# Altium footprint library PCB.PCBLIB: 320 footprints (part 15 of 20)
Each footprint in its own frame and in the unit in brackets; x right, y up, seen from the top. Pads: shape width x height; smd on the part's side, far side on the other; paste and mask are expansions set on the pad; w line width, h text height; cw(c..) or ccw(c..) is an arc to the next point about the centre after c.
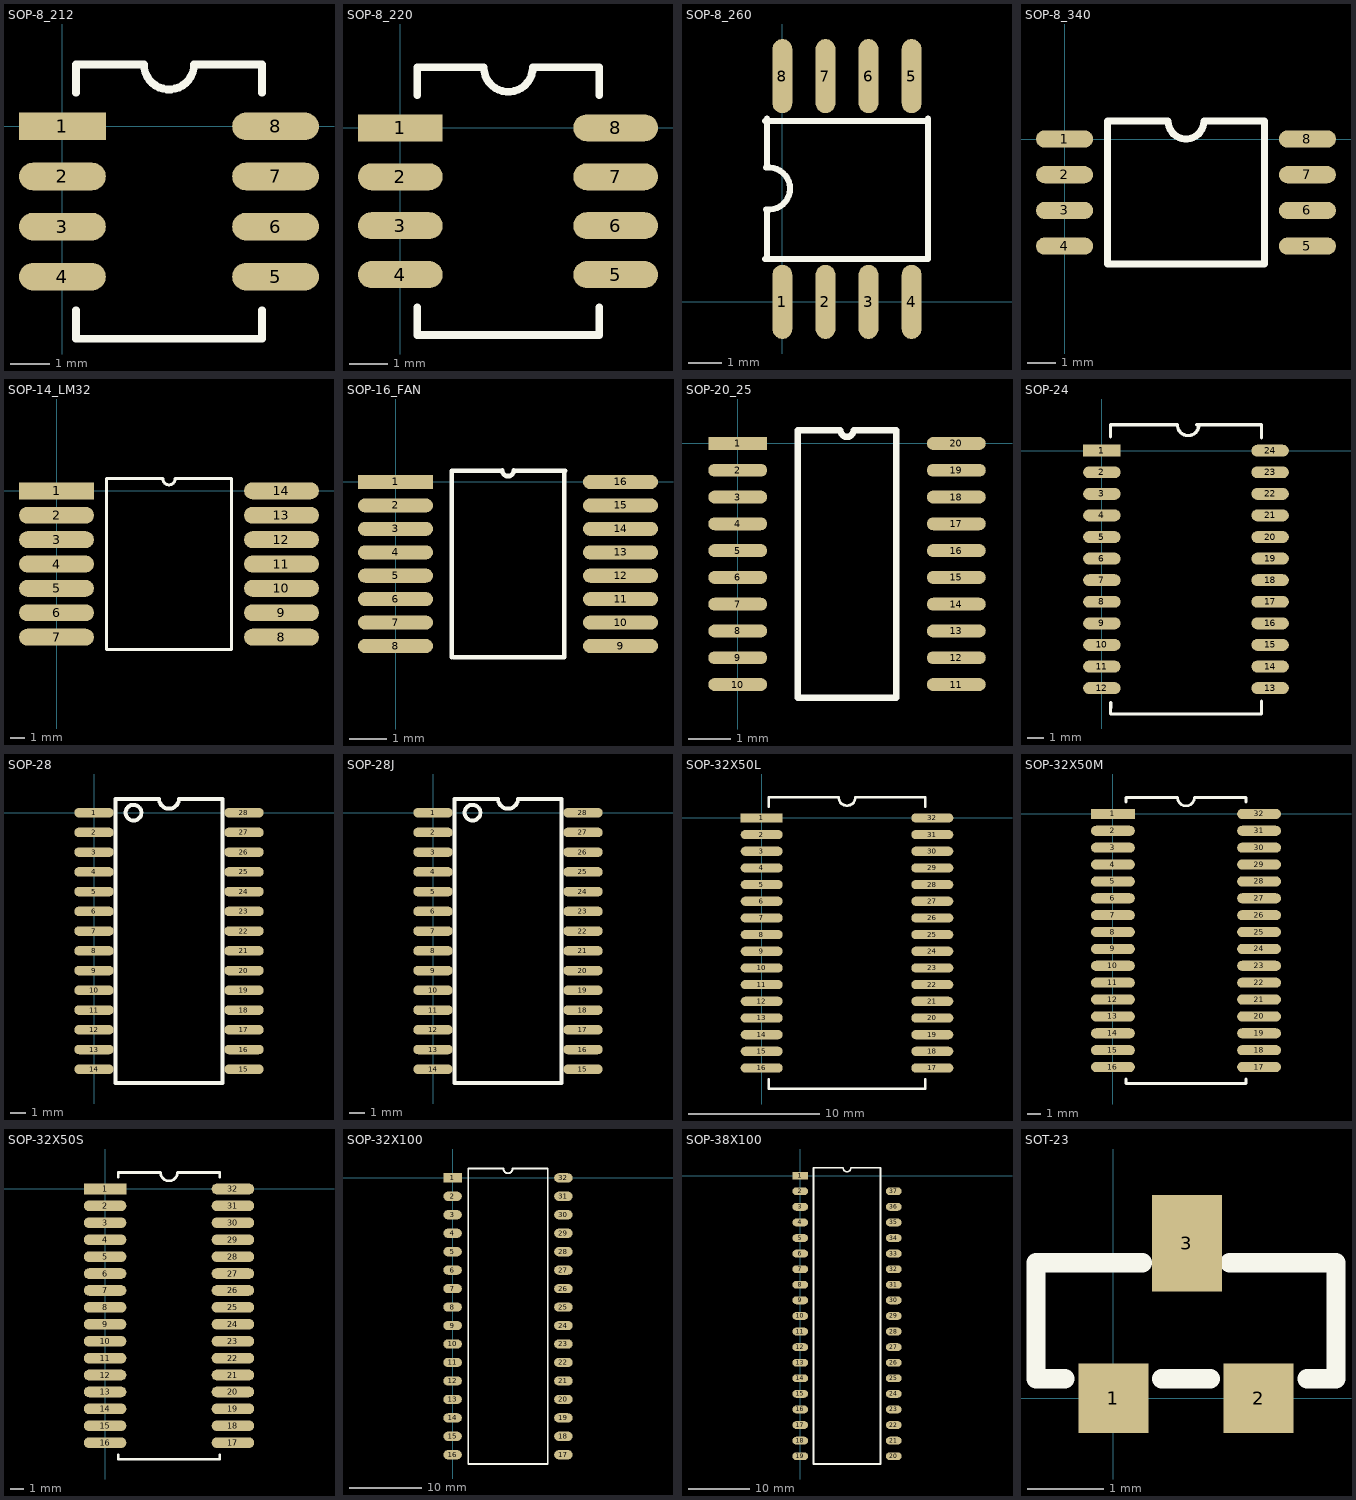
[diagram p14: the footprints below, top view; thin cyan lines are the x and y axes]

## SOP-8_212 [mm]
pads (8):
  rect 2.2x0.7 smd: 1(0,0)
  oval 2.2x0.7 smd: 2(0,-1.27) 3(0,-2.54) 4(0,-3.81) 5(5.4,-3.81) 6(5.4,-2.54) 7(5.4,-1.27) 8(5.4,0)
TopOverlay:
  lines w0.2: 0.34,-4.66 0.34,-5.38 5.06,-5.38 5.06,-4.66 ; 0.34,0.85 0.34,1.57 2.065,1.57 ccw(c2.7,1.57) 3.335,1.57 5.06,1.57 5.06,0.85

## SOP-8_220 [mm]
pads (8):
  rect 2.2x0.7 smd: 1(0,0)
  oval 2.2x0.7 smd: 2(0,-1.27) 3(0,-2.54) 4(0,-3.81) 5(5.588,-3.81) 6(5.588,-2.54) 7(5.588,-1.27) 8(5.588,0)
TopOverlay:
  lines w0.2: 0.442,-4.66 0.442,-5.38 5.162,-5.38 5.162,-4.66 ; 0.442,0.85 0.442,1.57 2.167,1.57 ccw(c2.802,1.57) 3.437,1.57 5.162,1.57 5.162,0.85

## SOP-8_260 [mil]
pads (8):
  oval 23x86 smd: 1(0,0) 2(50,0) 3(100,0) 4(150,0) 5(150,262) 6(100,262) 7(50,262) 8(0,262)
TopOverlay:
  lines w7: -20,50 167,50 ; -20,210 167,210 ; -18.65,107.14 ccw(c-16,132) 9,131.71 ; -18.67,155.86 cw(c-16,131) 9,131.27 ; -18,50 -18,106 ; -18,156 -18,213 ; 169,50 169,213

## SOP-8_340 [mil]
pads (8):
  oval 80x24 smd: 1(0,0) 2(0,-50) 3(0,-100) 4(0,-150) 5(340,-150) 6(340,-100) 7(340,-50) 8(340,0)
TopOverlay:
  lines w10: 60,-175 60,25 145,25 ccw(c170,25) 195,25 280,25 280,-175 60,-175

## SOP-14_LM32 [mil]
pads (14):
  rect 200x45 smd: 1(0,0)
  oval 200x45 smd: 2(0,-65) 3(0,-130) 4(0,-195) 5(0,-260) 6(0,-325) 7(0,-390) 8(600,-390) 9(600,-325) 10(600,-260) 11(600,-195) 12(600,-130) 13(600,-65) 14(600,0)
TopOverlay:
  lines w8: 133,-422.5 133,32.5 283.75,32.5 ccw(c300,32.5) 316.25,32.5 467,32.5 467,-422.5 133,-422.5

## SOP-16_FAN [mil]
pads (16):
  rect 80x15 smd: 1(0,0)
  oval 80x15 smd: 2(0,-25) 3(0,-50) 4(0,-75) 5(0,-100) 6(0,-125) 7(0,-150) 8(0,-175) 9(240,-175) 10(240,-150) 11(240,-125) 12(240,-100) 13(240,-75) 14(240,-50) 15(240,-25) 16(240,0)
TopOverlay:
  lines w5: 60,-187 60,11 ; 60,12 112,12 ; 62,-187 179,-187 ; 113.75,12.5 ccw(c120,12.5) 126.25,12.5 ; 126,12 181,12 ; 180,-187 180,10

## SOP-20_25 [mil]
pads (20):
  rect 55x12 smd: 1(0,0)
  oval 55x12 smd: 2(0,-25) 3(0,-50) 4(0,-75) 5(0,-100) 6(0,-125) 7(0,-150) 8(0,-175) 9(0,-200) 10(0,-225) 11(204,-225) 12(204,-200) 13(204,-175) 14(204,-150) 15(204,-125) 16(204,-100) 17(204,-75) 18(204,-50) 19(204,-25) 20(204,0)
TopOverlay:
  lines w6: 56,-237.5 56,12.5 95.75,12.5 ccw(c102,12.5) 108.25,12.5 148,12.5 148,-237.5 56,-237.5

## SOP-24 [mm]
pads (24):
  rect 2.2x0.7 smd: 1(0,0)
  oval 2.2x0.7 smd: 2(0,-1.27) 3(0,-2.54) 4(0,-3.81) 5(0,-5.08) 6(0,-6.35) 7(0,-7.62) 8(0,-8.89) 9(0,-10.16) 10(0,-11.43) 11(0,-12.7) 12(0,-13.97) 13(9.906,-13.97) 14(9.906,-12.7) 15(9.906,-11.43) 16(9.906,-10.16) 17(9.906,-8.89) 18(9.906,-7.62) 19(9.906,-6.35) 20(9.906,-5.08) 21(9.906,-3.81) 22(9.906,-2.54) 23(9.906,-1.27) 24(9.906,0)
TopOverlay:
  lines w0.2: 0.508,0.804 0.508,1.524 4.445,1.524 ccw(c5.08,1.524) 5.715,1.524 ; 0.535,-14.82 0.508,-15.494 9.398,-15.494 ; 5.588,1.524 9.398,1.524 ; 9.398,-15.452 9.398,-14.732 ; 9.398,0.762 9.398,1.482

## SOP-28 [mil]
pads (28):
  oval 100x24 smd: 1(0,0) 2(0,-50) 3(0,-100) 4(0,-150) 5(0,-200) 6(0,-250) 7(0,-300) 8(0,-350) 9(0,-400) 10(0,-450) 11(0,-500) 12(0,-550) 13(0,-600) 14(0,-650) 15(380,-650) 16(380,-600) 17(380,-550) 18(380,-500) 19(380,-450) 20(380,-400) 21(380,-350) 22(380,-300) 23(380,-250) 24(380,-200) 25(380,-150) 26(380,-100) 27(380,-50) 28(380,0)
TopOverlay:
  circle w10: c100,0 r20
  lines w10: 55,-685 325,-685 325,35 215,35 cw(c190,35) 165,35 55,35 55,-685

## SOP-28J [mil]
pads (28):
  oval 100x24 smd: 1(0,0) 2(0,-50) 3(0,-100) 4(0,-150) 5(0,-200) 6(0,-250) 7(0,-300) 8(0,-350) 9(0,-400) 10(0,-450) 11(0,-500) 12(0,-550) 13(0,-600) 14(0,-650) 15(380,-650) 16(380,-600) 17(380,-550) 18(380,-500) 19(380,-450) 20(380,-400) 21(380,-350) 22(380,-300) 23(380,-250) 24(380,-200) 25(380,-150) 26(380,-100) 27(380,-50) 28(380,0)
TopOverlay:
  circle w10: c100,0 r20
  lines w10: 55,-685 55,35 165,35 ccw(c190,35) 215,35 325,35 325,-685 55,-685

## SOP-32X50L [mm]
pads (32):
  rect 3.2x0.7 smd: 1(0,0)
  oval 3.2x0.7 smd: 2(0,-1.27) 3(0,-2.54) 4(0,-3.81) 5(0,-5.08) 6(0,-6.35) 7(0,-7.62) 8(0,-8.89) 9(0,-10.16) 10(0,-11.43) 11(0,-12.7) 12(0,-13.97) 13(0,-15.24) 14(0,-16.51) 15(0,-17.78) 16(0,-19.05) 17(13,-19.05) 18(13,-17.78) 19(13,-16.51) 20(13,-15.24) 21(13,-13.97) 22(13,-12.7) 23(13,-11.43) 24(13,-10.16) 25(13,-8.89) 26(13,-7.62) 27(13,-6.35) 28(13,-5.08) 29(13,-3.81) 30(13,-2.54) 31(13,-1.27) 32(13,0)
TopOverlay:
  lines w0.2: 0.53,-19.9 0.53,-20.62 12.47,-20.62 12.47,-19.9 ; 0.53,0.85 0.53,1.57 5.865,1.57 ccw(c6.5,1.57) 7.135,1.57 12.47,1.57 12.47,0.85

## SOP-32X50M [mil]
pads (32):
  rect 130x30 smd: 1(0,0)
  oval 130x30 smd: 2(0,-50) 3(0,-100) 4(0,-150) 5(0,-200) 6(0,-250) 7(0,-300) 8(0,-350) 9(0,-400) 10(0,-450) 11(0,-500) 12(0,-550) 13(0,-600) 14(0,-650) 15(0,-700) 16(0,-750) 17(433.07,-750) 18(433.07,-700) 19(433.07,-650) 20(433.07,-600) 21(433.07,-550) 22(433.07,-500) 23(433.07,-450) 24(433.07,-400) 25(433.07,-350) 26(433.07,-300) 27(433.07,-250) 28(433.07,-200) 29(433.07,-150) 30(433.07,-100) 31(433.07,-50) 32(433.07,0)
TopOverlay:
  lines w7.87: 38.98,-785.43 38.98,-798.82 394.09,-798.82 394.09,-785.43 ; 38.98,35.43 38.98,48.82 191.53,48.82 ccw(c216.53,48.82) 241.53,48.82 394.09,48.82 394.09,35.43

## SOP-32X50S [mm]
pads (32):
  rect 3.2x0.8 smd: 1(0,0)
  oval 3.2x0.8 smd: 2(0,-1.27) 3(0,-2.54) 4(0,-3.81) 5(0,-5.08) 6(0,-6.35) 7(0,-7.62) 8(0,-8.89) 9(0,-10.16) 10(0,-11.43) 11(0,-12.7) 12(0,-13.97) 13(0,-15.24) 14(0,-16.51) 15(0,-17.78) 16(0,-19.05) 17(9.6,-19.05) 18(9.6,-17.78) 19(9.6,-16.51) 20(9.6,-15.24) 21(9.6,-13.97) 22(9.6,-12.7) 23(9.6,-11.43) 24(9.6,-10.16) 25(9.6,-8.89) 26(9.6,-7.62) 27(9.6,-6.35) 28(9.6,-5.08) 29(9.6,-3.81) 30(9.6,-2.54) 31(9.6,-1.27) 32(9.6,0)
TopOverlay:
  lines w0.2: 1,-19.95 1,-20.29 8.6,-20.29 8.6,-19.95 ; 1,0.9 1,1.24 4.165,1.24 ccw(c4.8,1.24) 5.435,1.24 8.6,1.24 8.6,0.9

## SOP-32X100 [mil]
pads (32):
  rect 100x50 smd: 1(0,0)
  oval 100x50 smd: 2(0,-100) 3(0,-200) 4(0,-300) 5(0,-400) 6(0,-500) 7(0,-600) 8(0,-700) 9(0,-800) 10(0,-900) 11(0,-1000) 12(0,-1100) 13(0,-1200) 14(0,-1300) 15(0,-1400) 16(0,-1500) 17(600,-1500) 18(600,-1400) 19(600,-1300) 20(600,-1200) 21(600,-1100) 22(600,-1000) 23(600,-900) 24(600,-800) 25(600,-700) 26(600,-600) 27(600,-500) 28(600,-400) 29(600,-300) 30(600,-200) 31(600,-100) 32(600,0)
TopOverlay:
  lines w10: 85,-1550 85,50 275,50 ccw(c300,50) 325,50 515,50 515,-1550 85,-1550

## SOP-38X100 [mil]
pads (37):
  rect 100x50 smd: 1(0,0)
  oval 100x50 smd: 2(0,-100) 3(0,-200) 4(0,-300) 5(0,-400) 6(0,-500) 7(0,-600) 8(0,-700) 9(0,-800) 10(0,-900) 11(0,-1000) 12(0,-1100) 13(0,-1200) 14(0,-1300) 15(0,-1400) 16(0,-1500) 17(0,-1600) 18(0,-1700) 19(0,-1800) 20(600,-1800) 21(600,-1700) 22(600,-1600) 23(600,-1500) 24(600,-1400) 25(600,-1300) 26(600,-1200) 27(600,-1100) 28(600,-1000) 29(600,-900) 30(600,-800) 31(600,-700) 32(600,-600) 33(600,-500) 34(600,-400) 35(600,-300) 36(600,-200) 37(600,-100)
TopOverlay:
  lines w10: 85,-1850 515,-1850 515,50 325,50 cw(c300,50) 275,50 85,50 85,-1850

## SOT-23 [mil]
pads (3):
  rect 36x36 smd: 1(0,0) 2(75,0)
  rect 36x50 smd: 3(38,80)
TopOverlay:
  lines w10: -25,10 -40,10 -40,70 15,70 ; 25,10 50,10 ; 60,70 115,70 115,10 100,10